# Altium footprint library SRR1260101M.PcbLib: 1 footprints
Each footprint in its own frame and in the unit in brackets; x right, y up, seen from the top. Pads: shape width x height; smd on the part's side, far side on the other; paste and mask are expansions set on the pad; w line width, h text height; cw(c..) or ccw(c..) is an arc to the next point about the centre after c.
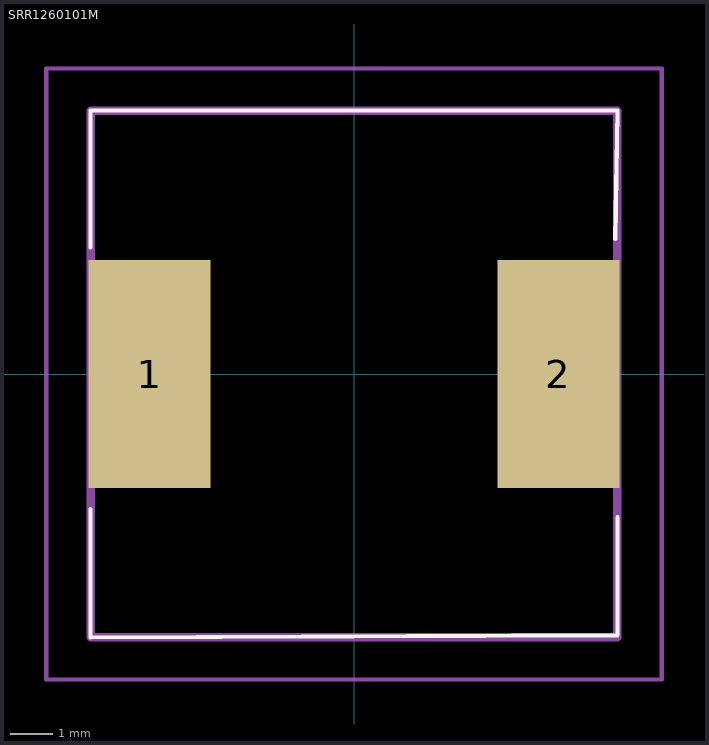
[diagram p0: the footprint, top view; thin cyan lines are the x and y axes]

## SRR1260101M [mm]
pads (2):
  rect 2.9x5.4 smd: 1(-4.85,0) 2(4.85,0)
Top Overlay:
  lines w0.1: -6.25,-3.2 -6.25,-6.25 6.25,-6.2 6.25,-3.4 ; -6.25,3 -6.25,6.25 6.25,6.25 6.2,3.2
Mechanical 15:
  lines w0.2: -6.25,-6.25 -6.25,6.25 6.25,6.25 6.25,-6.25 -6.25,-6.25
Mechanical 20:
  lines w0.1: -7.3,-7.25 -7.3,7.25 7.3,7.25 7.3,-7.25 -7.3,-7.25
3D body "SRR1260-101M.stp": height 6, standoff 0, extent -6.25,-6.123 6.25,6.377